# Altium schematic symbol library MOS管.SchLib: 3 symbols
Pins are listed as number, name and electrical type; pins without a type are passive.

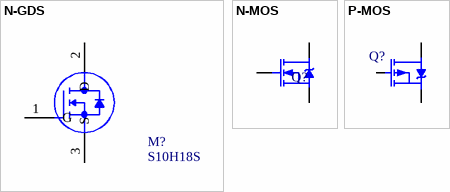
[diagram p0: symbols N-GDS to P-MOS]

## N-GDS
designator M?, comment S10H18S
footprint TO-252
footprint TO-252-2_L6.5-W6.1-P4.58-LS10.0-TL
pins: 1 G, 2 D, 3 S

## N-MOS
designator Q?
N沟道场效应管
footprint TO220A
footprint TO220B
footprint TO92A (92晶体管)
footprint TO92B (92晶体管)
footprint TO252 (252晶体管)
footprint SOT23
footprint TO-252-2_L6.5-W6.1-P4.58-LS10.0-TL
pins: D, G, S

## P-MOS
designator Q?
P沟道场效应管
footprint TO263-3A
footprint TO263-3B
footprint SOT23
footprint TO252 (252晶体管)
pins: D, G, S